# Altium schematic symbol library GVA-123+.SchLib: 1 symbol
Pins are listed as number, name and electrical type; pins without a type are passive.

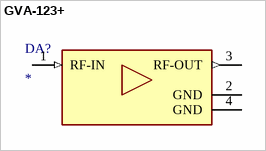
[diagram p0: symbol GVA-123+]

## GVA-123+
designator DA?
Integrated Circuit; Manufacturer_Name: Mini-Circuits; Manufacturer_Part_Number: GVA-123+; Datasheet Link: https://www.minicircuits.com/pdfs/GVA-123+.pdf; Height: 1.6mm
pins: 1 RF-IN (in), 2 GND (power), 3 RF-OUT (out), 4 GND